# EAGLE library part HEADER_1X7 (library 1)
Header 7P
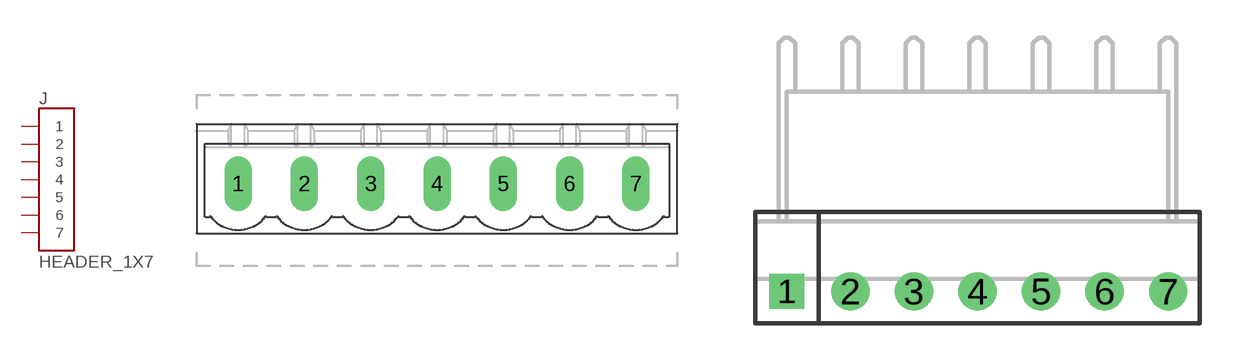
[diagram p35: symbol with the pads of MSTBV7; footprints MSTBV7, 640455-7]

Designator prefix J

## HEADER_1X7P  [MSTBV7]
1  1
2  2
3  3
4  4
5  5
6  6
7  7

## HEADER_1X7MTA-100  [640455-7]
Pads as for MSTBV7

## Footprint MSTBV7 (pad centres in mm)
PHOENIX 1755781 OnShore OSTOQ075450
drill 1.397 long: 1 -15.24,0; 2 -10.16,0; 3 -5.08,0; 4 0,0; 5 5.08,0; 6 10.16,0; 7 15.24,0

## Footprint 640455-7 (pad centres in mm)
*Pin 1 undersized for retention during waveflow (see datasheet) <http://www.te.com/commerce/DocumentDelivery/DDEController?Action=srchrtrv&DocNm=640455&DocType=Customer+Drawing&DocLang=English>
drill 0.889 square: 1 0,0
drill 1.02: 2 2.54,0; 3 5.08,0; 4 7.62,0; 5 10.16,0; 6 12.7,0; 7 15.24,0